# Altium schematic symbol library L_coupled.Schlib: 1 symbol
Pins are listed as number, name and electrical type; pins without a type are passive.

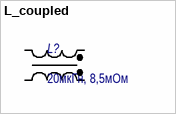
[diagram p0: symbol L_coupled]

## L_coupled
designator L?, comment 20мкГн, 8,5мОм
Связанная индуктивность; Наименование: PLT10HH1026R0PN; Потребление, Вт: 0,1; Назначение: Связанная индуктивность; Value: 20мкГн, 8,5мОм
footprint PLT10HH (Coupled Inductor)
pins: 1, 2, 3, 4